# Altium schematic symbol library VS-30CDU06HM3_I.SchLib: 1 symbol
Pins are listed as number, name and electrical type; pins without a type are passive.

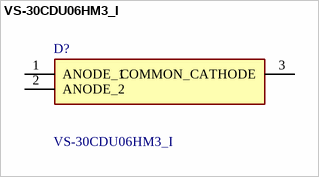
[diagram p0: symbol VS-30CDU06HM3_I]

## VS-30CDU06HM3_I
designator D?
Rectifiers Dual 2x15A 600V FRED Pt AEC-Q101; Manufacturer_Name: Vishay; Manufacturer_Part_Number: VS-30CDU06HM3/I; Geometry.Height: 1.8mm; Mouser Part Number: 78-VS-30CDU06HM3I; Mouser Price/Stock: https://www.mouser.co.uk/ProductDetail/Vishay-Semiconductors/VS-30CDU06HM3-I?qs=TzNRGq6adzkm0ixYQuTp0g%3D%3D; Datasheet Link: https://componentsearchengine.com/Datasheets/1/VS-30CDU06HM3_I.pdf
footprint VS30CDU06HM3I
pins: 1 ANODE_1, 2 ANODE_2, 3 COMMON_CATHODE